# EAGLE library part STM32F205VG (library Pygmy)
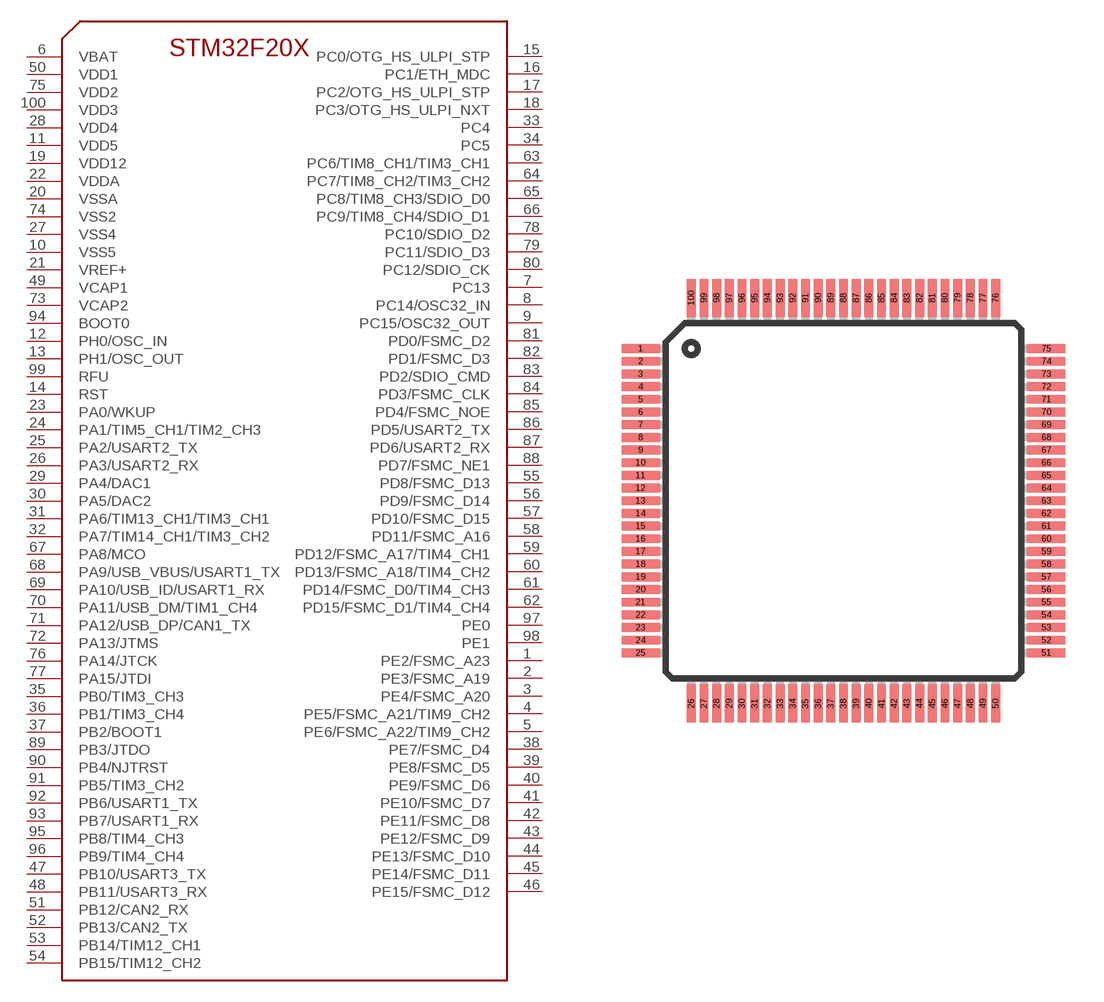
[diagram p0: symbol with the pads of TQFP100; footprint TQFP100]

Designator prefix -

## STM32F205VG  [TQFP100]
1  PE2/FSMC_A23
2  PE3/FSMC_A19
3  PE4/FSMC_A20
4  PE5/FSMC_A21/TIM9_CH2
5  PE6/FSMC_A22/TIM9_CH2
6  VBAT
7  PC13
8  PC14/OSC32_IN
9  PC15/OSC32_OUT
10  VSS5
11  VDD5
12  PH0/OSC_IN
13  PH1/OSC_OUT
14  RST
15  PC0/OTG_HS_ULPI_STP
16  PC1/ETH_MDC
17  PC2/OTG_HS_ULPI_STP
18  PC3/OTG_HS_ULPI_NXT
19  VDD12
20  VSSA
21  VREF+
22  VDDA
23  PA0/WKUP
24  PA1/TIM5_CH1/TIM2_CH3
25  PA2/USART2_TX
26  PA3/USART2_RX
27  VSS4
28  VDD4
29  PA4/DAC1
30  PA5/DAC2
31  PA6/TIM13_CH1/TIM3_CH1
32  PA7/TIM14_CH1/TIM3_CH2
33  PC4
34  PC5
35  PB0/TIM3_CH3
36  PB1/TIM3_CH4
37  PB2/BOOT1
38  PE7/FSMC_D4
39  PE8/FSMC_D5
40  PE9/FSMC_D6
41  PE10/FSMC_D7
42  PE11/FSMC_D8
43  PE12/FSMC_D9
44  PE13/FSMC_D10
45  PE14/FSMC_D11
46  PE15/FSMC_D12
47  PB10/USART3_TX
48  PB11/USART3_RX
49  VCAP1
50  VDD1
51  PB12/CAN2_RX
52  PB13/CAN2_TX
53  PB14/TIM12_CH1
54  PB15/TIM12_CH2
55  PD8/FSMC_D13
56  PD9/FSMC_D14
57  PD10/FSMC_D15
58  PD11/FSMC_A16
59  PD12/FSMC_A17/TIM4_CH1
60  PD13/FSMC_A18/TIM4_CH2
61  PD14/FSMC_D0/TIM4_CH3
62  PD15/FSMC_D1/TIM4_CH4
63  PC6/TIM8_CH1/TIM3_CH1
64  PC7/TIM8_CH2/TIM3_CH2
65  PC8/TIM8_CH3/SDIO_D0
66  PC9/TIM8_CH4/SDIO_D1
67  PA8/MCO
68  PA9/USB_VBUS/USART1_TX
69  PA10/USB_ID/USART1_RX
70  PA11/USB_DM/TIM1_CH4
71  PA12/USB_DP/CAN1_TX
72  PA13/JTMS
73  VCAP2
74  VSS2
75  VDD2
76  PA14/JTCK
77  PA15/JTDI
78  PC10/SDIO_D2
79  PC11/SDIO_D3
80  PC12/SDIO_CK
81  PD0/FSMC_D2
82  PD1/FSMC_D3
83  PD2/SDIO_CMD
84  PD3/FSMC_CLK
85  PD4/FSMC_NOE
86  PD5/USART2_TX
87  PD6/USART2_RX
88  PD7/FSMC_NE1
89  PB3/JTDO
90  PB4/NJTRST
91  PB5/TIM3_CH2
92  PB6/USART1_TX
93  PB7/USART1_RX
94  BOOT0
95  PB8/TIM4_CH3
96  PB9/TIM4_CH4
97  PE0
98  PE1
99  RFU
100  VDD3

## Footprint TQFP100 (pad centres in mm)
smd 1.5 x 0.35: 1 -8,6; 2 -8,5.5; 3 -8,5; 4 -8,4.5; 5 -8,4; 6 -8,3.5; 7 -8,3; 8 -8,2.5; 9 -8,2; 10 -8,1.5; 11 -8,1; 12 -8,0.5; 13 -8,0; 14 -8,-0.5; 15 -8,-1; 16 -8,-1.5; 17 -8,-2; 18 -8,-2.5; 19 -8,-3; 20 -8,-3.5; 21 -8,-4; 22 -8,-4.5; 23 -8,-5; 24 -8,-5.5; 25 -8,-6; 51 8,-6; 52 8,-5.5; 53 8,-5; 54 8,-4.5; 55 8,-4; 56 8,-3.5; 57 8,-3; 58 8,-2.5; 59 8,-2; 60 8,-1.5; 61 8,-1; 62 8,-0.5; 63 8,0; 64 8,0.5; 65 8,1; 66 8,1.5; 67 8,2; 68 8,2.5; 69 8,3; 70 8,3.5; 71 8,4; 72 8,4.5; 73 8,5; 74 8,5.5; 75 8,6
smd 0.35 x 1.5: 26 -6,-8; 27 -5.5,-8; 28 -5,-8; 29 -4.5,-8; 30 -4,-8; 31 -3.5,-8; 32 -3,-8; 33 -2.5,-8; 34 -2,-8; 35 -1.5,-8; 36 -1,-8; 37 -0.5,-8; 38 0,-8; 39 0.5,-8; 40 1,-8; 41 1.5,-8; 42 2,-8; 43 2.5,-8; 44 3,-8; 45 3.5,-8; 46 4,-8; 47 4.5,-8; 48 5,-8; 49 5.5,-8; 50 6,-8; 76 6,8; 77 5.5,8; 78 5,8; 79 4.5,8; 80 4,8; 81 3.5,8; 82 3,8; 83 2.5,8; 84 2,8; 85 1.5,8; 86 1,8; 87 0.5,8; 88 0,8; 89 -0.5,8; 90 -1,8; 91 -1.5,8; 92 -2,8; 93 -2.5,8; 94 -3,8; 95 -3.5,8; 96 -4,8; 97 -4.5,8; 98 -5,8; 99 -5.5,8; 100 -6,8